# Altium footprint library Texas Instruments Footprints.PcbLib: 429 footprints (part 19 of 32)
Each footprint in its own frame and in the unit in brackets; x right, y up, seen from the top. Pads: shape width x height; smd on the part's side, far side on the other; paste and mask are expansions set on the pad; w line width, h text height; cw(c..) or ccw(c..) is an arc to the next point about the centre after c.
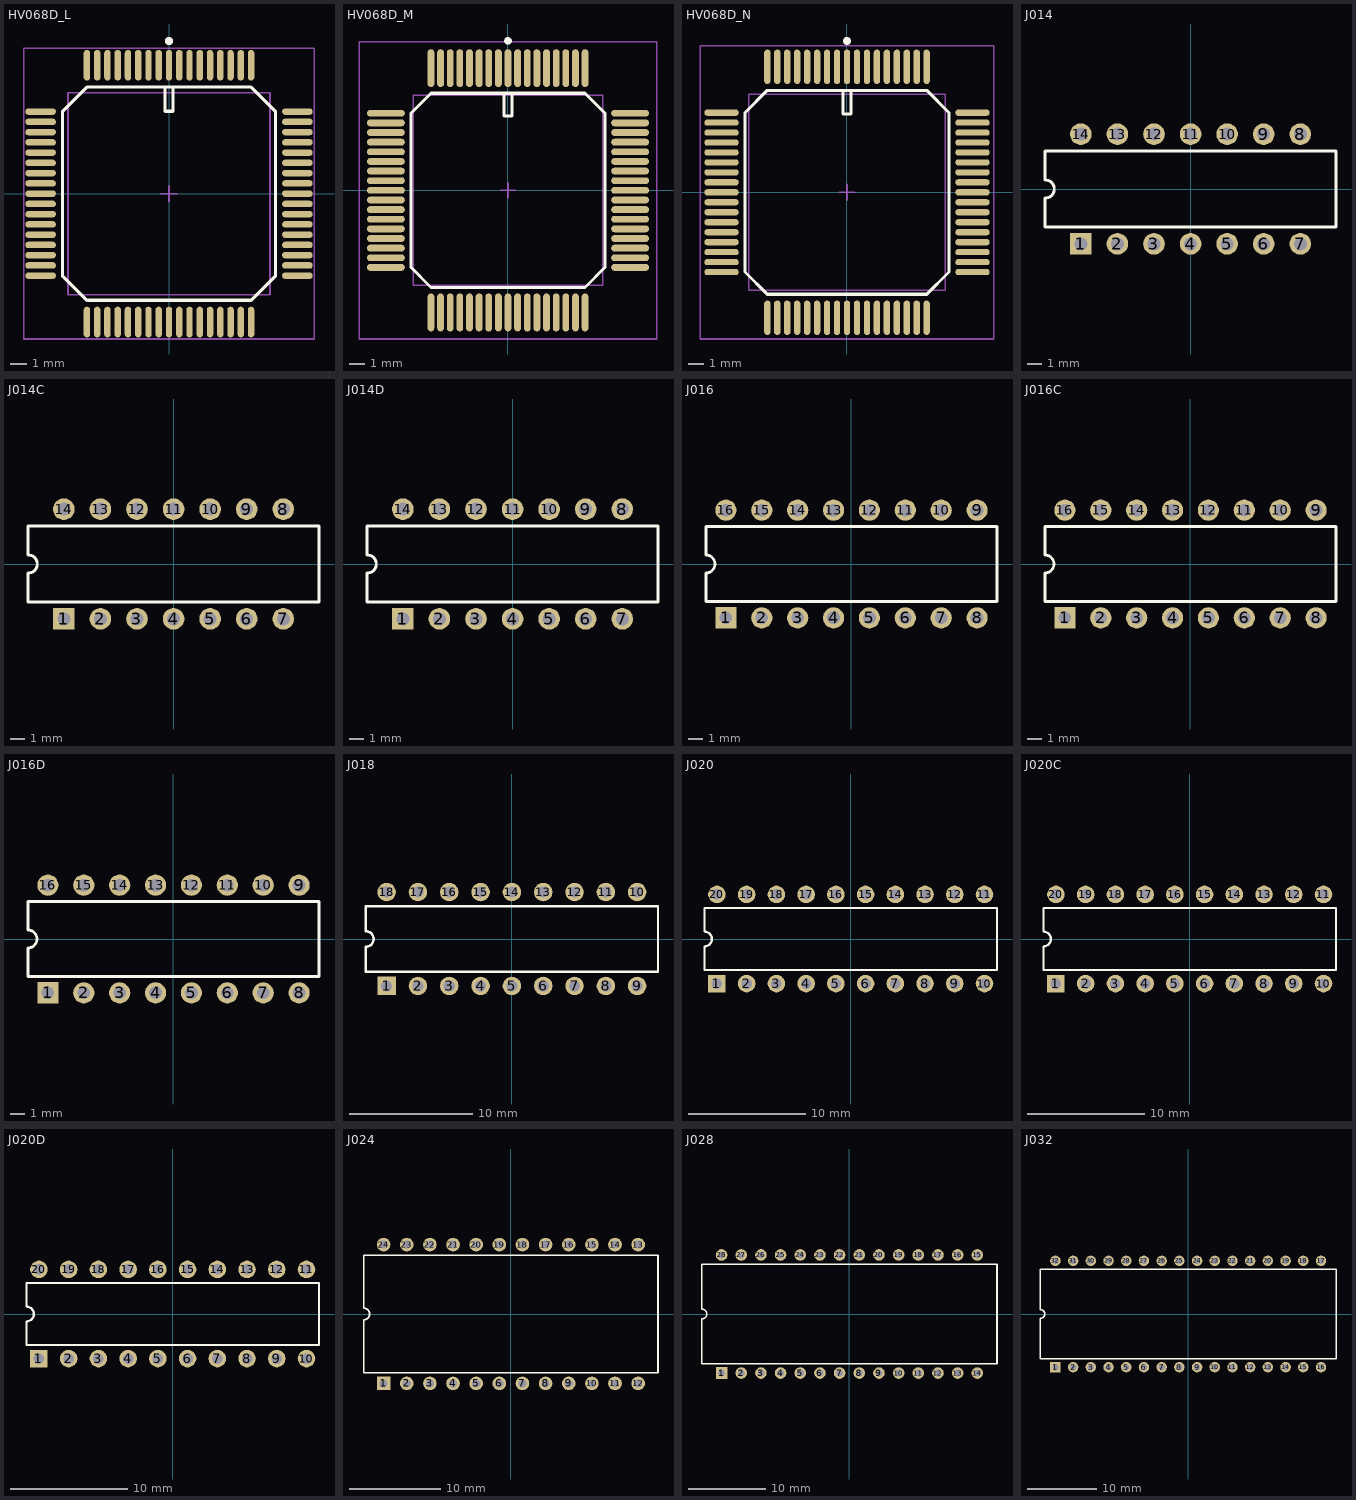
[diagram p18: the footprints below, top view; thin cyan lines are the x and y axes]

## HV068D_L [mm] "68-Pin Ceramic Quad Flat Pack 0.635 mm Pitch, IPC High Density"
height 3.9
pads (68):
  oval 0.4x1.9 smd: 1(0,7.95) 2(-0.635,7.95) 3(-1.27,7.95) 4(-1.905,7.95) 5(-2.54,7.95) 6(-3.175,7.95) 7(-3.81,7.95) 8(-4.445,7.95) 9(-5.08,7.95) 27(-5.08,-7.95) 28(-4.445,-7.95) 29(-3.81,-7.95) 30(-3.175,-7.95) 31(-2.54,-7.95) 32(-1.905,-7.95) 33(-1.27,-7.95) 34(-0.635,-7.95) 35(0,-7.95) 36(0.635,-7.95) 37(1.27,-7.95) 38(1.905,-7.95) 39(2.54,-7.95) 40(3.175,-7.95) 41(3.81,-7.95) 42(4.445,-7.95) 43(5.08,-7.95) 61(5.08,7.95) 62(4.445,7.95) 63(3.81,7.95) 64(3.175,7.95) 65(2.54,7.95) 66(1.905,7.95) 67(1.27,7.95) 68(0.635,7.95)
  oval 1.9x0.4 smd: 10(-7.95,5.08) 11(-7.95,4.445) 12(-7.95,3.81) 13(-7.95,3.175) 14(-7.95,2.54) 15(-7.95,1.905) 16(-7.95,1.27) 17(-7.95,0.635) 18(-7.95,0) 19(-7.95,-0.635) 20(-7.95,-1.27) 21(-7.95,-1.905) 22(-7.95,-2.54) 23(-7.95,-3.175) 24(-7.95,-3.81) 25(-7.95,-4.445) 26(-7.95,-5.08) 44(7.95,-5.08) 45(7.95,-4.445) 46(7.95,-3.81) 47(7.95,-3.175) 48(7.95,-2.54) 49(7.95,-1.905) 50(7.95,-1.27) 51(7.95,-0.635) 52(7.95,0) 53(7.95,0.635) 54(7.95,1.27) 55(7.95,1.905) 56(7.95,2.54) 57(7.95,3.175) 58(7.95,3.81) 59(7.95,4.445) 60(7.95,5.08)
Top Overlay:
  circle w0.25: c0,9.45 r0.125
  lines w0.2: -0.25,6.6 -0.25,5.1 0.25,5.1 0.25,6.6 ; -6.6,-5.08 -6.6,5.08 -5.08,6.6 5.08,6.6 6.6,5.08 6.6,-5.08 5.08,-6.6 -5.08,-6.6 -6.6,-5.08
Mechanical 13:
  lines w0.1: -6.255,-6.255 -6.255,6.255 6.255,6.255 6.255,-6.255 -6.255,-6.255
Mechanical 15:
  lines w0.1: -0.5,0 0.5,0 ; 0,-0.5 0,0.5 ; -9,-9 -9,9 9,9 9,-9 -9,-9
3D body: height 3.9, standoff 0, extent -6.255,-6.255 6.255,6.255

## HV068D_M [mm] "68-Pin Ceramic Quad Flat Pack 0.635 mm Pitch, IPC Low Density"
height 3.9
pads (68):
  oval 0.45x2.5 smd: 1(0,8.05) 2(-0.635,8.05) 3(-1.27,8.05) 4(-1.905,8.05) 5(-2.54,8.05) 6(-3.175,8.05) 7(-3.81,8.05) 8(-4.445,8.05) 9(-5.08,8.05) 27(-5.08,-8.05) 28(-4.445,-8.05) 29(-3.81,-8.05) 30(-3.175,-8.05) 31(-2.54,-8.05) 32(-1.905,-8.05) 33(-1.27,-8.05) 34(-0.635,-8.05) 35(0,-8.05) 36(0.635,-8.05) 37(1.27,-8.05) 38(1.905,-8.05) 39(2.54,-8.05) 40(3.175,-8.05) 41(3.81,-8.05) 42(4.445,-8.05) 43(5.08,-8.05) 61(5.08,8.05) 62(4.445,8.05) 63(3.81,8.05) 64(3.175,8.05) 65(2.54,8.05) 66(1.905,8.05) 67(1.27,8.05) 68(0.635,8.05)
  oval 2.5x0.45 smd: 10(-8.05,5.08) 11(-8.05,4.445) 12(-8.05,3.81) 13(-8.05,3.175) 14(-8.05,2.54) 15(-8.05,1.905) 16(-8.05,1.27) 17(-8.05,0.635) 18(-8.05,0) 19(-8.05,-0.635) 20(-8.05,-1.27) 21(-8.05,-1.905) 22(-8.05,-2.54) 23(-8.05,-3.175) 24(-8.05,-3.81) 25(-8.05,-4.445) 26(-8.05,-5.08) 44(8.05,-5.08) 45(8.05,-4.445) 46(8.05,-3.81) 47(8.05,-3.175) 48(8.05,-2.54) 49(8.05,-1.905) 50(8.05,-1.27) 51(8.05,-0.635) 52(8.05,0) 53(8.05,0.635) 54(8.05,1.27) 55(8.05,1.905) 56(8.05,2.54) 57(8.05,3.175) 58(8.05,3.81) 59(8.05,4.445) 60(8.05,5.08)
Top Overlay:
  circle w0.25: c0,9.85 r0.125
  lines w0.2: -0.25,6.4 -0.25,4.9 0.25,4.9 0.25,6.4 ; -6.4,-5.08 -5.08,-6.4 5.08,-6.4 6.4,-5.08 6.4,5.08 5.08,6.4 -5.08,6.4 -6.4,5.08 -6.4,-5.08
Mechanical 13:
  lines w0.1: -6.255,-6.255 6.255,-6.255 6.255,6.255 -6.255,6.255 -6.255,-6.255
Mechanical 15:
  lines w0.1: -0.5,0 0.5,0 ; 0,-0.5 0,0.5 ; -9.8,-9.8 9.8,-9.8 9.8,9.8 -9.8,9.8 -9.8,-9.8
3D body: height 3.9, standoff 0, extent -6.255,-6.255 6.255,6.255

## HV068D_N [mm] "68-Pin Ceramic Quad Flat Pack 0.635 mm Pitch, IPC Medium Density"
height 3.9
pads (68):
  oval 0.4x2.2 smd: 1(0,8) 2(-0.635,8) 3(-1.27,8) 4(-1.905,8) 5(-2.54,8) 6(-3.175,8) 7(-3.81,8) 8(-4.445,8) 9(-5.08,8) 27(-5.08,-8) 28(-4.445,-8) 29(-3.81,-8) 30(-3.175,-8) 31(-2.54,-8) 32(-1.905,-8) 33(-1.27,-8) 34(-0.635,-8) 35(0,-8) 36(0.635,-8) 37(1.27,-8) 38(1.905,-8) 39(2.54,-8) 40(3.175,-8) 41(3.81,-8) 42(4.445,-8) 43(5.08,-8) 61(5.08,8) 62(4.445,8) 63(3.81,8) 64(3.175,8) 65(2.54,8) 66(1.905,8) 67(1.27,8) 68(0.635,8)
  oval 2.2x0.4 smd: 10(-8,5.08) 11(-8,4.445) 12(-8,3.81) 13(-8,3.175) 14(-8,2.54) 15(-8,1.905) 16(-8,1.27) 17(-8,0.635) 18(-8,0) 19(-8,-0.635) 20(-8,-1.27) 21(-8,-1.905) 22(-8,-2.54) 23(-8,-3.175) 24(-8,-3.81) 25(-8,-4.445) 26(-8,-5.08) 44(8,-5.08) 45(8,-4.445) 46(8,-3.81) 47(8,-3.175) 48(8,-2.54) 49(8,-1.905) 50(8,-1.27) 51(8,-0.635) 52(8,0) 53(8,0.635) 54(8,1.27) 55(8,1.905) 56(8,2.54) 57(8,3.175) 58(8,3.81) 59(8,4.445) 60(8,5.08)
Top Overlay:
  circle w0.25: c0,9.65 r0.125
  lines w0.2: -0.25,6.5 -0.25,5 0.25,5 0.25,6.5 ; -6.5,-5.08 -5.08,-6.5 5.08,-6.5 6.5,-5.08 6.5,5.08 5.08,6.5 -5.08,6.5 -6.5,5.08 -6.5,-5.08
Mechanical 13:
  lines w0.1: -6.255,-6.255 6.255,-6.255 6.255,6.255 -6.255,6.255 -6.255,-6.255
Mechanical 15:
  lines w0.1: -0.5,0 0.5,0 ; 0,-0.5 0,0.5 ; -9.35,-9.35 9.35,-9.35 9.35,9.35 -9.35,9.35 -9.35,-9.35
3D body: height 3.9, standoff 0, extent -6.255,-6.255 6.255,6.255

## J014 [mm] "DIP; 14 Leads; Row Spacing 7.62 mm; Pitch 2.54 mm"
height 5.08
pads (14):
  rect 1.5x1.5 hole 0.9: 1(-7.62,-3.81)
  round 1.5 hole 0.9: 2(-5.08,-3.81) 3(-2.54,-3.81) 4(0,-3.81) 5(2.54,-3.81) 6(5.08,-3.81) 7(7.62,-3.81) 8(7.62,3.81) 9(5.08,3.81) 10(2.54,3.81) 11(0,3.81) 12(-2.54,3.81) 13(-5.08,3.81) 14(-7.62,3.81)
Top Overlay:
  lines w0.2: -10.1,-2.65 -10.1,-0.635 ccw(c-10.1,0) -10.1,0.635 -10.1,2.65 10.1,2.65 10.1,-2.65 -10.1,-2.65

## J014C [mm] "DIP; 14 Leads; Row Spacing 7.62 mm; Pitch 2.54 mm"
height 5.08
pads (14):
  rect 1.5x1.5 hole 0.9: 1(-7.62,-3.81)
  round 1.5 hole 0.9: 2(-5.08,-3.81) 3(-2.54,-3.81) 4(0,-3.81) 5(2.54,-3.81) 6(5.08,-3.81) 7(7.62,-3.81) 8(7.62,3.81) 9(5.08,3.81) 10(2.54,3.81) 11(0,3.81) 12(-2.54,3.81) 13(-5.08,3.81) 14(-7.62,3.81)
Top Overlay:
  lines w0.2: -10.1,-2.65 -10.1,-0.635 ccw(c-10.1,0) -10.1,0.635 -10.1,2.65 10.1,2.65 10.1,-2.65 -10.1,-2.65

## J014D [mm] "DIP; 14 Leads; Row Spacing 7.62 mm; Pitch 2.54 mm"
height 5.08
pads (14):
  rect 1.5x1.5 hole 0.9: 1(-7.62,-3.81)
  round 1.5 hole 0.9: 2(-5.08,-3.81) 3(-2.54,-3.81) 4(0,-3.81) 5(2.54,-3.81) 6(5.08,-3.81) 7(7.62,-3.81) 8(7.62,3.81) 9(5.08,3.81) 10(2.54,3.81) 11(0,3.81) 12(-2.54,3.81) 13(-5.08,3.81) 14(-7.62,3.81)
Top Overlay:
  lines w0.2: -10.1,-2.65 -10.1,-0.635 ccw(c-10.1,0) -10.1,0.635 -10.1,2.65 10.1,2.65 10.1,-2.65 -10.1,-2.65

## J016 [mm] "DIP; 16 Leads; Row Spacing 7.62 mm; Pitch 2.54 mm"
height 5.08
pads (16):
  rect 1.5x1.5 hole 0.9: 1(-8.89,-3.81)
  round 1.5 hole 0.9: 2(-6.35,-3.81) 3(-3.81,-3.81) 4(-1.27,-3.81) 5(1.27,-3.81) 6(3.81,-3.81) 7(6.35,-3.81) 8(8.89,-3.81) 9(8.89,3.81) 10(6.35,3.81) 11(3.81,3.81) 12(1.27,3.81) 13(-1.27,3.81) 14(-3.81,3.81) 15(-6.35,3.81) 16(-8.89,3.81)
Top Overlay:
  lines w0.2: -10.3,-2.65 -10.3,-0.635 ccw(c-10.3,0) -10.3,0.635 -10.3,2.65 10.3,2.65 10.3,-2.65 -10.3,-2.65

## J016C [mm] "DIP; 16 Leads; Row Spacing 7.62 mm; Pitch 2.54 mm"
height 5.08
pads (16):
  rect 1.5x1.5 hole 0.9: 1(-8.89,-3.81)
  round 1.5 hole 0.9: 2(-6.35,-3.81) 3(-3.81,-3.81) 4(-1.27,-3.81) 5(1.27,-3.81) 6(3.81,-3.81) 7(6.35,-3.81) 8(8.89,-3.81) 9(8.89,3.81) 10(6.35,3.81) 11(3.81,3.81) 12(1.27,3.81) 13(-1.27,3.81) 14(-3.81,3.81) 15(-6.35,3.81) 16(-8.89,3.81)
Top Overlay:
  lines w0.2: -10.3,-2.65 -10.3,-0.635 ccw(c-10.3,0) -10.3,0.635 -10.3,2.65 10.3,2.65 10.3,-2.65 -10.3,-2.65

## J016D [mm] "DIP; 16 Leads; Row Spacing 7.62 mm; Pitch 2.54 mm"
height 5.08
pads (16):
  rect 1.5x1.5 hole 0.9: 1(-8.89,-3.81)
  round 1.5 hole 0.9: 2(-6.35,-3.81) 3(-3.81,-3.81) 4(-1.27,-3.81) 5(1.27,-3.81) 6(3.81,-3.81) 7(6.35,-3.81) 8(8.89,-3.81) 9(8.89,3.81) 10(6.35,3.81) 11(3.81,3.81) 12(1.27,3.81) 13(-1.27,3.81) 14(-3.81,3.81) 15(-6.35,3.81) 16(-8.89,3.81)
Top Overlay:
  lines w0.2: -10.3,-2.65 -10.3,-0.635 ccw(c-10.3,0) -10.3,0.635 -10.3,2.65 10.3,2.65 10.3,-2.65 -10.3,-2.65

## J018 [mm] "DIP; 18 Leads; Row Spacing 7.62 mm; Pitch 2.54 mm"
height 5.08
pads (18):
  rect 1.5x1.5 hole 0.9: 1(-10.16,-3.81)
  round 1.5 hole 0.9: 2(-7.62,-3.81) 3(-5.08,-3.81) 4(-2.54,-3.81) 5(0,-3.81) 6(2.54,-3.81) 7(5.08,-3.81) 8(7.62,-3.81) 9(10.16,-3.81) 10(10.16,3.81) 11(7.62,3.81) 12(5.08,3.81) 13(2.54,3.81) 14(0,3.81) 15(-2.54,3.81) 16(-5.08,3.81) 17(-7.62,3.81) 18(-10.16,3.81)
Top Overlay:
  lines w0.2: -11.85,-2.65 11.85,-2.65 11.85,2.65 -11.85,2.65 -11.85,0.635 cw(c-11.85,0) -11.85,-0.635 -11.85,-2.65

## J020 [mm] "DIP; 20 Leads; Row Spacing 7.62 mm; Pitch 2.54 mm"
height 5.08
pads (20):
  rect 1.5x1.5 hole 0.9: 1(-11.43,-3.81)
  round 1.5 hole 0.9: 2(-8.89,-3.81) 3(-6.35,-3.81) 4(-3.81,-3.81) 5(-1.27,-3.81) 6(1.27,-3.81) 7(3.81,-3.81) 8(6.35,-3.81) 9(8.89,-3.81) 10(11.43,-3.81) 11(11.43,3.81) 12(8.89,3.81) 13(6.35,3.81) 14(3.81,3.81) 15(1.27,3.81) 16(-1.27,3.81) 17(-3.81,3.81) 18(-6.35,3.81) 19(-8.89,3.81) 20(-11.43,3.81)
Top Overlay:
  lines w0.2: -12.5,-2.65 12.5,-2.65 12.5,2.65 -12.5,2.65 -12.5,0.635 cw(c-12.5,0) -12.5,-0.635 -12.5,-2.65

## J020C [mm] "DIP; 20 Leads; Row Spacing 7.62 mm; Pitch 2.54 mm"
height 5.08
pads (20):
  rect 1.5x1.5 hole 0.9: 1(-11.43,-3.81)
  round 1.5 hole 0.9: 2(-8.89,-3.81) 3(-6.35,-3.81) 4(-3.81,-3.81) 5(-1.27,-3.81) 6(1.27,-3.81) 7(3.81,-3.81) 8(6.35,-3.81) 9(8.89,-3.81) 10(11.43,-3.81) 11(11.43,3.81) 12(8.89,3.81) 13(6.35,3.81) 14(3.81,3.81) 15(1.27,3.81) 16(-1.27,3.81) 17(-3.81,3.81) 18(-6.35,3.81) 19(-8.89,3.81) 20(-11.43,3.81)
Top Overlay:
  lines w0.2: -12.5,-2.65 12.5,-2.65 12.5,2.65 -12.5,2.65 -12.5,0.635 cw(c-12.5,0) -12.5,-0.635 -12.5,-2.65

## J020D [mm] "DIP; 20 Leads; Row Spacing 7.62 mm; Pitch 2.54 mm"
height 5.08
pads (20):
  rect 1.5x1.5 hole 0.9: 1(-11.43,-3.81)
  round 1.5 hole 0.9: 2(-8.89,-3.81) 3(-6.35,-3.81) 4(-3.81,-3.81) 5(-1.27,-3.81) 6(1.27,-3.81) 7(3.81,-3.81) 8(6.35,-3.81) 9(8.89,-3.81) 10(11.43,-3.81) 11(11.43,3.81) 12(8.89,3.81) 13(6.35,3.81) 14(3.81,3.81) 15(1.27,3.81) 16(-1.27,3.81) 17(-3.81,3.81) 18(-6.35,3.81) 19(-8.89,3.81) 20(-11.43,3.81)
Top Overlay:
  lines w0.2: -12.5,-2.65 12.5,-2.65 12.5,2.65 -12.5,2.65 -12.5,0.635 cw(c-12.5,0) -12.5,-0.635 -12.5,-2.65

## J024 [mm] "DIP; 24 Leads; Row Spacing 15.24 mm; Pitch 2.54 mm"
height 5.16
pads (24):
  rect 1.5x1.5 hole 0.9: 1(-13.97,-7.62)
  round 1.5 hole 0.9: 2(-11.43,-7.62) 3(-8.89,-7.62) 4(-6.35,-7.62) 5(-3.81,-7.62) 6(-1.27,-7.62) 7(1.27,-7.62) 8(3.81,-7.62) 9(6.35,-7.62) 10(8.89,-7.62) 11(11.43,-7.62) 12(13.97,-7.62) 13(13.97,7.62) 14(11.43,7.62) 15(8.89,7.62) 16(6.35,7.62) 17(3.81,7.62) 18(1.27,7.62) 19(-1.27,7.62) 20(-3.81,7.62) 21(-6.35,7.62) 22(-8.89,7.62) 23(-11.43,7.62) 24(-13.97,7.62)
Top Overlay:
  lines w0.2: -16.15,-6.45 -16.15,-0.635 ccw(c-16.15,0) -16.15,0.635 -16.15,6.45 16.15,6.45 16.15,-6.45 -16.15,-6.45

## J028 [mm] "DIP; 28 Leads; Row Spacing 15.24 mm; Pitch 2.54 mm"
height 5.16
pads (28):
  rect 1.5x1.5 hole 0.9: 1(-16.51,-7.62)
  round 1.5 hole 0.9: 2(-13.97,-7.62) 3(-11.43,-7.62) 4(-8.89,-7.62) 5(-6.35,-7.62) 6(-3.81,-7.62) 7(-1.27,-7.62) 8(1.27,-7.62) 9(3.81,-7.62) 10(6.35,-7.62) 11(8.89,-7.62) 12(11.43,-7.62) 13(13.97,-7.62) 14(16.51,-7.62) 15(16.51,7.62) 16(13.97,7.62) 17(11.43,7.62) 18(8.89,7.62) 19(6.35,7.62) 20(3.81,7.62) 21(1.27,7.62) 22(-1.27,7.62) 23(-3.81,7.62) 24(-6.35,7.62) 25(-8.89,7.62) 26(-11.43,7.62) 27(-13.97,7.62) 28(-16.51,7.62)
Top Overlay:
  lines w0.2: -19.05,-6.45 19.05,-6.45 19.05,6.45 -19.05,6.45 -19.05,0.635 cw(c-19.05,0) -19.05,-0.635 -19.05,-6.45

## J032 [mm] "DIP; 32 Leads; Row Spacing 15.24 mm; Pitch 2.54 mm"
height 5.16
pads (32):
  rect 1.5x1.5 hole 0.9: 1(-19.05,-7.62)
  round 1.5 hole 0.9: 2(-16.51,-7.62) 3(-13.97,-7.62) 4(-11.43,-7.62) 5(-8.89,-7.62) 6(-6.35,-7.62) 7(-3.81,-7.62) 8(-1.27,-7.62) 9(1.27,-7.62) 10(3.81,-7.62) 11(6.35,-7.62) 12(8.89,-7.62) 13(11.43,-7.62) 14(13.97,-7.62) 15(16.51,-7.62) 16(19.05,-7.62) 17(19.05,7.62) 18(16.51,7.62) 19(13.97,7.62) 20(11.43,7.62) 21(8.89,7.62) 22(6.35,7.62) 23(3.81,7.62) 24(1.27,7.62) 25(-1.27,7.62) 26(-3.81,7.62) 27(-6.35,7.62) 28(-8.89,7.62) 29(-11.43,7.62) 30(-13.97,7.62) 31(-16.51,7.62) 32(-19.05,7.62)
Top Overlay:
  lines w0.2: -21.2,-6.45 -21.2,-0.635 ccw(c-21.2,0) -21.2,0.635 -21.2,6.45 21.2,6.45 21.2,-6.45 -21.2,-6.45